# EAGLE library part STM32-M-36 (library pel_stm32)
STM32F103 Medium Density 36 Pins
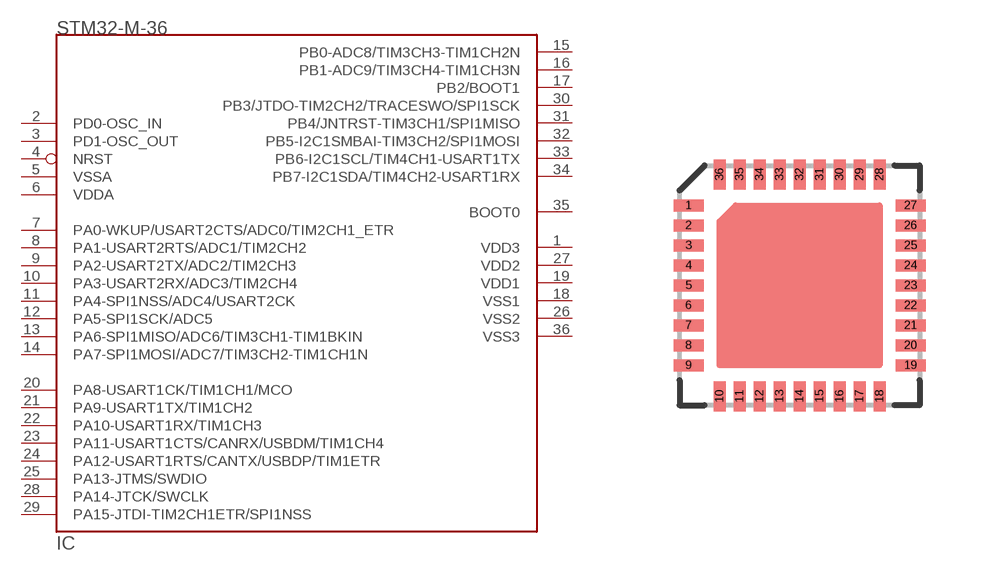
[diagram p0: symbol with the pads of VFQFPN36-LP; footprint VFQFPN36-LP]

Designator prefix IC

## STM32-M-36  [VFQFPN36-LP]
1  VDD3  sup
2  PD0-OSC_IN  in
3  PD1-OSC_OUT  out
4  NRST
5  VSSA  sup
6  VDDA  sup
7  PA0-WKUP/USART2CTS/ADC0/TIM2CH1_ETR
8  PA1-USART2RTS/ADC1/TIM2CH2
9  PA2-USART2TX/ADC2/TIM2CH3
10  PA3-USART2RX/ADC3/TIM2CH4
11  PA4-SPI1NSS/ADC4/USART2CK
12  PA5-SPI1SCK/ADC5
13  PA6-SPI1MISO/ADC6/TIM3CH1-TIM1BKIN
14  PA7-SPI1MOSI/ADC7/TIM3CH2-TIM1CH1N
15  PB0-ADC8/TIM3CH3-TIM1CH2N
16  PB1-ADC9/TIM3CH4-TIM1CH3N
17  PB2/BOOT1
18  VSS1  sup
19  VDD1  sup
20  PA8-USART1CK/TIM1CH1/MCO
21  PA9-USART1TX/TIM1CH2
22  PA10-USART1RX/TIM1CH3
23  PA11-USART1CTS/CANRX/USBDM/TIM1CH4
24  PA12-USART1RTS/CANTX/USBDP/TIM1ETR
25  PA13-JTMS/SWDIO
26  VSS2  sup
27  VDD2  sup
28  PA14-JTCK/SWCLK
29  PA15-JTDI-TIM2CH1ETR/SPI1NSS
30  PB3/JTDO-TIM2CH2/TRACESWO/SPI1SCK
31  PB4/JNTRST-TIM3CH1/SPI1MISO
32  PB5-I2C1SMBAI-TIM3CH2/SPI1MOSI
33  PB6-I2C1SCL/TIM4CH1-USART1TX
34  PB7-I2C1SDA/TIM4CH2-USART1RX
35  BOOT0  in
36  VSS3  sup

## Footprint VFQFPN36-LP (pad centres in mm)
smd 0.75 x 0.3: 1 -2.775,2; 2 -2.775,1.5; 3 -2.775,1; 4 -2.775,0.5; 5 -2.775,0; 6 -2.775,-0.5; 7 -2.775,-1; 8 -2.775,-1.5; 9 -2.775,-2; 19 2.775,-2; 20 2.775,-1.5; 21 2.775,-1; 22 2.775,-0.5; 23 2.775,0; 24 2.775,0.5; 25 2.775,1; 26 2.775,1.5; 27 2.775,2
smd 0.3 x 0.75: 10 -2,-2.775; 11 -1.5,-2.775; 12 -1,-2.775; 13 -0.5,-2.775; 14 0,-2.775; 15 0.5,-2.775; 16 1,-2.775; 17 1.5,-2.775; 18 2,-2.775; 28 2,2.775; 29 1.5,2.775; 30 1,2.775; 31 0.5,2.775; 32 0,2.775; 33 -0.5,2.775; 34 -1,2.775; 35 -1.5,2.775; 36 -2,2.775